# EAGLE library part CONN_RJ45_LEDS_SH (library GPLIB_CONN)
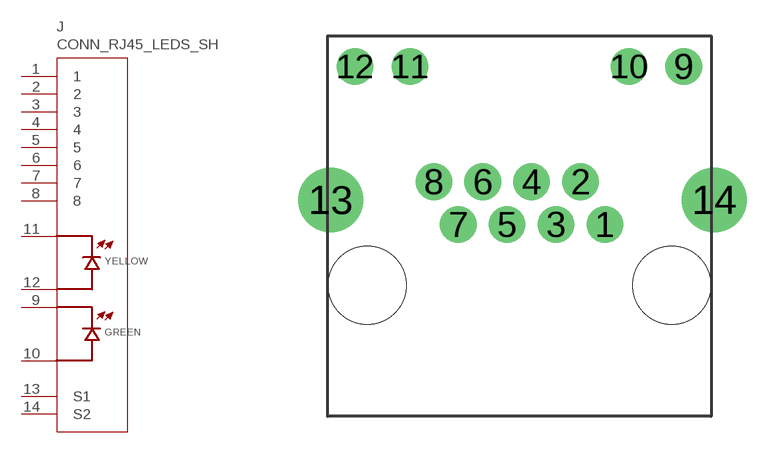
[diagram p68: symbol with the pads of CONN_RJ45_RA_LEDS_SH_KH-RJ45-56-8P8C-D; footprint CONN_RJ45_RA_LEDS_SH_KH-RJ45-56-8P8C-D]

Designator prefix J

## CONN_RJ45_LEDS_SH_RA_LEDS_SH_KH-RJ45-56-8P8C-D  [CONN_RJ45_RA_LEDS_SH_KH-RJ45-56-8P8C-D]
1  1
2  2
3  3
4  4
5  5
6  6
7  7
8  8
9  U_CG  pas
10  U_AG  pas
11  U_CY  pas
12  U_AY  pas
13  S1
14  S2

## Footprint CONN_RJ45_RA_LEDS_SH_KH-RJ45-56-8P8C-D (pad centres in mm)
drill 1.02 pad 1.524: 1 3.57,-3.295; 2 2.55,-1.515; 3 1.53,-3.295; 4 0.51,-1.515; 5 -0.51,-3.295; 6 -1.53,-1.515; 7 -2.55,-3.295; 8 -3.57,-1.515; 9 6.86,3.295; 10 4.57,3.295; 11 -4.57,3.295; 12 -6.86,3.295
drill 1.8 pad 2.5: 13 -7.87,-2.275; 14 8.13,-2.275
hole 3.25 at -6.35,-5.835
hole 3.25 at 6.35,-5.835